# Altium footprint library DEOP2324.PcbLib: 23 footprints (part 1 of 2)
Each footprint in its own frame and in the unit in brackets; x right, y up, seen from the top. Pads: shape width x height; smd on the part's side, far side on the other; paste and mask are expansions set on the pad; w line width, h text height; cw(c..) or ccw(c..) is an arc to the next point about the centre after c.
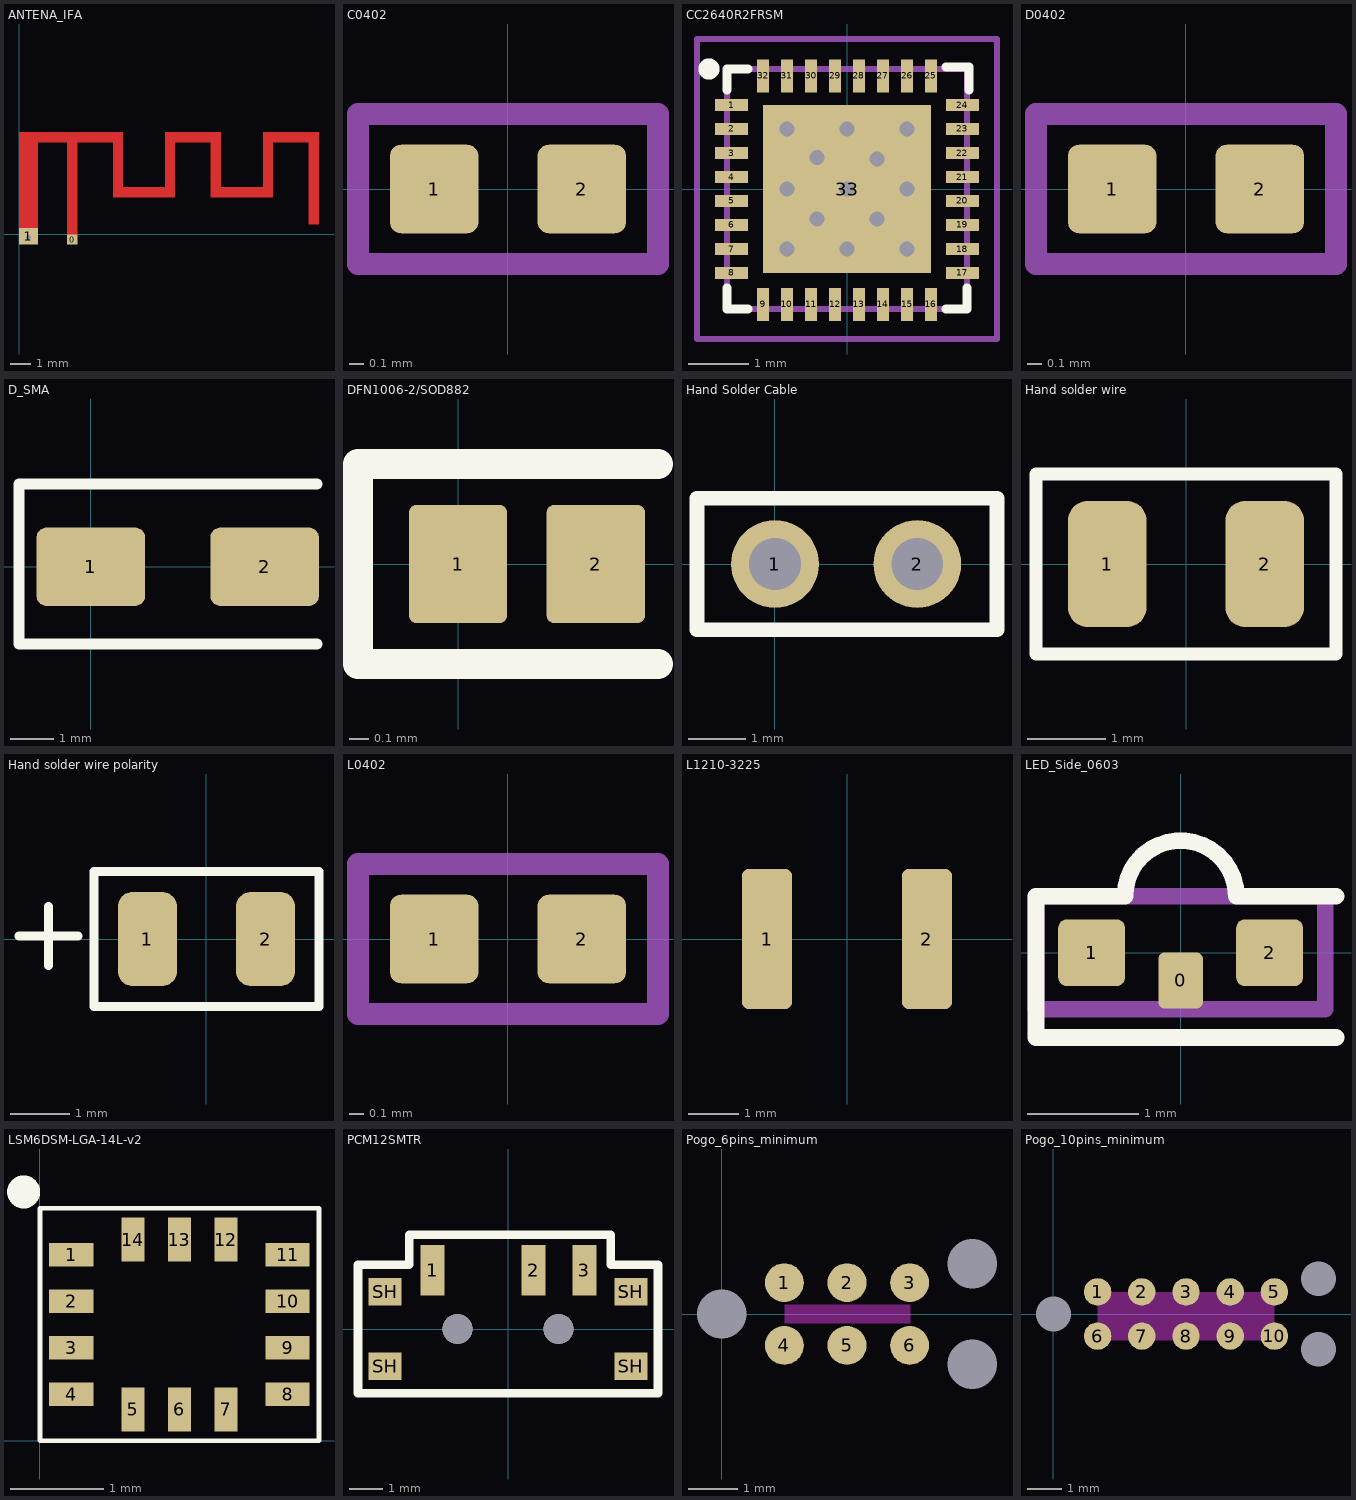
[diagram p0: the footprints below, top view; thin cyan lines are the x and y axes]

## ANTENA_IFA [mm]
pads (2):
  rect 0.5x0.5 smd mask+0.102: 0(2.55,-0.25)
  rect 0.9x0.8 smd mask+0.102: 1(0.45,-0.1)
via 0.45,-0.15 diameter 0.55 hole 0.25
Top Layer:
  rectangle: 0,0.2 0.9,4.425
  rectangle: 4.725,1.76 7.5,2.26
  rectangle: 4.5,1.76 5,4.625
  rectangle: 0,4.4 5,4.9
  rectangle: 2.3,-0.025 2.8,4.425
  rectangle: 7,1.76 7.5,4.475
  rectangle: 7,4.4 9.7,4.9
  rectangle: 9.2,1.76 9.7,4.45
  rectangle: 11.7,1.76 12.2,4.475
  rectangle: 11.7,4.4 14.4,4.9
  rectangle: 13.9,0.46 14.4,4.45
  rectangle: 9.475,1.76 11.975,2.26

## C0402 [mm]
pads (2):
  rrect25% 0.6x0.6 smd: 1(-0.5,0) 2(0.5,0)
Mechanical 1:
  lines w0.15: -1.016,-0.508 1.016,-0.508 1.016,0.508 -1.016,0.508 -1.016,-0.508
3D body "C_0402_1005Metric.step": height 0.5, standoff 0, extent -0.5,-0.25 0.5,0.25

## CC2640R2FRSM [mm]
pads (33):
  rect 0.55x0.2 smd paste+0 mask+0.05: 1(-1.925,1.4) 2(-1.925,1) 3(-1.925,0.6) 4(-1.925,0.2) 5(-1.925,-0.2) 6(-1.925,-0.6) 7(-1.925,-1) 8(-1.925,-1.4) 17(1.925,-1.4) 18(1.925,-1) 19(1.925,-0.6) 20(1.925,-0.2) 21(1.925,0.2) 22(1.925,0.6) 23(1.925,1) 24(1.925,1.4)
  rect 0.2x0.55 smd paste+0 mask+0.05: 9(-1.4,-1.925) 10(-1,-1.925) 11(-0.6,-1.925) 12(-0.2,-1.925) 13(0.2,-1.925) 14(0.6,-1.925) 15(1,-1.925) 16(1.4,-1.925) 25(1.4,1.885) 26(1,1.885) 27(0.6,1.885) 28(0.2,1.885) 29(-0.2,1.885) 30(-0.6,1.885) 31(-1,1.885) 32(-1.4,1.885)
  rect 2.8x2.8 smd paste+0 mask+0.05: 33(0,0)
via -0.5,0.528 diameter 0.55 hole 0.25
via -0.5,-0.5 diameter 0.55 hole 0.25
via 0.5,-0.5 diameter 0.55 hole 0.25
via 0.5,0.5 diameter 0.55 hole 0.25
via 0,1 diameter 0.55 hole 0.25
via 1,1 diameter 0.55 hole 0.25
via 1,0 diameter 0.55 hole 0.25
via 1,-1 diameter 0.55 hole 0.25
via 0,-1 diameter 0.55 hole 0.25
via -1,-1 diameter 0.55 hole 0.25
via -1,0 diameter 0.55 hole 0.25
via 0,0 diameter 0.55 hole 0.25
via -1,1 diameter 0.55 hole 0.25
Top Overlay:
  circle w0.254: c-2.3,2 r0.05
  lines w0.15: -2,-1.65 -2,-2 -1.65,-2 ; -2,1.65 -2,2 -1.65,2 ; 1.65,-2 2,-2 2,-1.65 ; 1.651,2.032 2.031,2.032 ; 2.032,1.652 2.032,2.032
Mechanical 13:
  lines w0.1: -2,-2 2,-2 2,2 -2,2 -2,-2
Mechanical 15:
  lines w0.1: -2.5,-2.5 -2.5,2.5 2.5,2.5 2.5,-2.5 -2.5,-2.5
3D body "QFN-32-1EP_4x4mm_P0.4mm_EP2.9x2.9mm.step": height 1.1, standoff 0, extent -2,-2 2,2

## D0402 [mm]
pads (2):
  rrect25% 0.6x0.6 smd: 1(-0.5,0) 2(0.5,0)
Mechanical 1:
  lines w0.15: -1.016,-0.508 1.016,-0.508 1.016,0.508 -1.016,0.508 -1.016,-0.508

## D_SMA [mm]
pads (2):
  rrect25% 2.5x1.8 smd: 1(0,0) 2(4,0)
Top Overlay:
  lines w0.254: 5.207,-1.778 -1.651,-1.778 -1.651,1.905 5.207,1.905
3D body "D_SMA.step": height 2.22, standoff 0, extent -0.5,-1.35 4.5,1.35

## DFN1006-2/SOD882 [mm]
pads (2):
  rrect15% 0.5x0.6 smd: 1(0,0) 2(0.7,0)
Top Overlay:
  lines w0.15: 1.016,-0.508 -0.508,-0.508 -0.508,0.508 1.016,0.508
3D body "SOD882-S1.step": height 0.41, standoff 0, extent -0.15,-0.3 0.85,0.3

## Hand Solder Cable [mil]
pads (2):
  round 60 hole 35.43: 1(0,0) 2(97.24,0)
Top Overlay:
  lines w10: -53.29,-45 151.71,-45 151.71,45 -53.29,45 -53.29,-45

## Hand solder wire [mm]
pads (2):
  rrect50% 1x1.6 smd: 1(-1,0) 2(1,0)
Top Overlay:
  lines w0.16: -1.905,-1.143 1.905,-1.143 1.905,1.143 -1.905,1.143 -1.905,-1.143

## Hand solder wire polarity [mm]
pads (2):
  rrect50% 1x1.6 smd: 1(-1,0) 2(1,0)
Top Overlay:
  lines w0.15: -3.175,0.05 -2.175,0.05 ; -2.675,-0.45 -2.675,0.55
  lines w0.16: -1.905,-1.143 1.905,-1.143 1.905,1.143 -1.905,1.143 -1.905,-1.143

## L0402 [mm]
pads (2):
  rrect25% 0.6x0.6 smd: 1(-0.5,0) 2(0.5,0)
Mechanical 1:
  lines w0.15: -1.016,-0.508 1.016,-0.508 1.016,0.508 -1.016,0.508 -1.016,-0.508
3D body "L_0402_1005Metric.step": height 0.5, standoff 0, extent -0.5,-0.25 0.5,0.25

## L1210-3225 [mm]
pads (2):
  rrect25% 1x2.8 smd: 1(-1.6,0) 2(1.6,0)
3D body "L_1210_3225Metric.step": height 2.5, standoff 0, extent -1.6,-1.25 1.6,1.25

## LED_Side_0603 [mm]
pads (3):
  rrect25% 0.4x0.5 smd: 0(0,-0.25)
  rrect25% 0.6x0.6 smd: 1(-0.8,0) 2(0.8,0)
Top Overlay:
  lines w0.15: 1.397,-0.762 -1.3,-0.762 -1.3,0.508 -0.5,0.508 cw(c0,0.508) 0.5,0.508 1.397,0.508
Mechanical 1:
  lines w0.15: -1.3,-0.508 1.3,-0.508 1.3,0.508 -1.3,0.508 -1.3,-0.508
3D body "Download_STEP_155060xx73200 (rev1).stp": height 0.6, standoff 0, extent -0.8,-0.15 0.8,0.846

## LSM6DSM-LGA-14L-v2 [mm]
pads (14):
  rect 0.475x0.25 smd: 1(0.337,2) 2(0.337,1.5) 3(0.337,1) 4(0.337,0.5) 8(2.662,0.5) 9(2.662,1) 10(2.662,1.5) 11(2.662,2)
  rect 0.25x0.475 smd: 5(1,0.338) 6(1.5,0.338) 7(2,0.338) 12(2,2.163) 13(1.5,2.163) 14(1,2.163)
Top Overlay:
  circle w0.254: c-0.175,2.675 r0.05
  lines w0.05: 0,0 0,2.5 3,2.5 3,0 0,0
3D body "LGA-14_3x2.5mm_P0.5mm_LayoutBorder3x4y.step": height 0.78, standoff 0, extent 0.024,0.02 3.024,2.52

## PCM12SMTR [mil]
pads (9):
  rect 28x59 smd: 1(-88,68.5) 2(30,68.5) 3(89,68.5)
  rect 39x32 smd: SH(-143.5,-43.5) SH(-143.5,43.5) SH(143.5,-43.5) SH(143.5,43.5)
  round 35 hole 35 unplated: ""(-59,0) ""(59,0)
Top Overlay:
  lines w10: -175,-75 -175,75 -115,75 -115,110 120,110 120,75 175,75 175,-75 75,-75 -175,-75
3D body "SW_SPDT_PCM12.step": height 59.06, standoff -19.68, extent -151.57,-110.43 151.57,86.42

## Pogo_6pins_minimum [mil]
pads (9):
  round 31 smd mask+0: 1(50,25) 2(100,25) 3(150,25) 4(50,-25) 5(100,-25) 6(150,-25)
  round 31.5 hole 39.37 unplated: ""(0,0) ""(200,-39.96) ""(200,40)
Top Layer keep-out:
  rectangle: 50.2,-7.48 150.59,7.48

## Pogo_10pins_minimum [mil]
pads (13):
  round 31 smd mask-196.85: 1(50,25) 2(100,25) 3(150,25) 4(200,25) 5(250,25) 6(50,-25) 7(100,-25) 8(150,-25) 9(200,-25) 10(250,-25)
  round 31.5 hole 39.37 unplated: ""(0,0) ""(300,-39.96) ""(300,39.96)
Keep-Out Layer:
  rectangle: 50,-30 250,25